# Altium integrated library TPS54560DDA.IntLib: 1 symbol
Pins are listed as number, name and electrical type; pins without a type are passive.

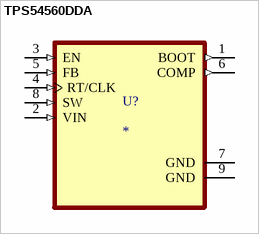
[diagram p0: symbol TPS54560DDA]

## TPS54560DDA
designator U?
4.5V to 60 V input, 5 A step-down converter with Eco-Mode; MF: Texas Instruments; MP: TPS54560DDA; SnapEDA_Link: https://www.snapeda.com/parts/TPS54560DDA/Texas+Instruments/view-part/?ref=snap; Package: HSOIC-8 Texas Instruments; Value: *; Check_prices: https://www.snapeda.com/parts/TPS54560DDA/Texas+Instruments/view-part/?ref=eda
footprint VREG_LM5017MR/NOPB
pins: 1 BOOT (out), 2 VIN (in), 3 EN (in), 4 RT/CLK (in), 5 FB (in), 6 COMP (out), 7 GND (power), 8 SW (in), 9 GND (power)